# Altium integrated library WE-MAPI SMD Power Inductor.IntLib: 43 symbols
Pins are listed as number, name and electrical type; pins without a type are passive.

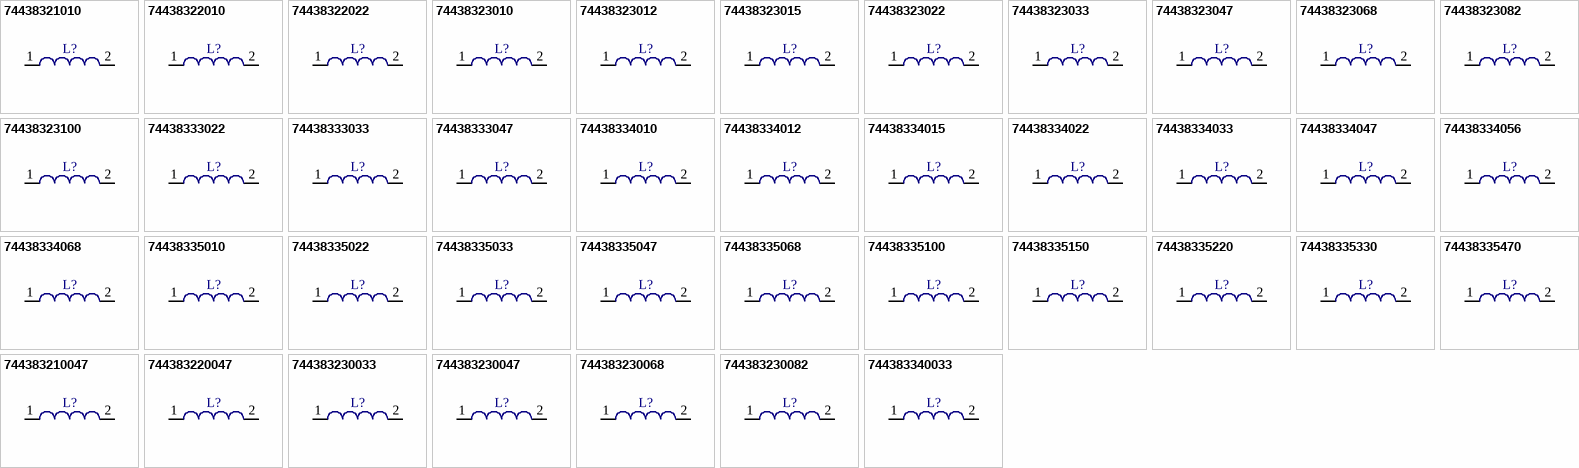
[diagram p0: symbols 74438321010 to 744383340033]

## 74438321010
designator L?
Power Multilayer Inductor WE-MAPI, L=1.0µH; PartNumber: 74438321010; Inductance: 1.0µH; PackageReference: SMD 2506; ComponentLink1Description: Manufacturer URL; ComponentLink1URL: http://www.we-online.com; ComponentLink2Description: Datasheet; ComponentLink2URL: http://katalog.we-online.de/kataloge/eisos/media/pdf/74438321010.pdf
footprint SMD 2506 (Chip Inductor, 2-Leads, Body 2.5x2.0mm, IPC Medium Density)
pins: 1, 2

## 74438322010
designator L?
Power Multilayer Inductor WE-MAPI, L=1.0µH; PartNumber: 74438322010; Inductance: 1.0µH; PackageReference: SMD 2508; ComponentLink1Description: Manufacturer URL; ComponentLink1URL: http://www.we-online.com; ComponentLink2Description: Datasheet; ComponentLink2URL: http://katalog.we-online.de/kataloge/eisos/media/pdf/74438322010.pdf
footprint SMD 2508 (Chip Inductor, 2-Leads, Body 2.5x2.0mm, IPC Medium Density)
pins: 1, 2

## 74438322022
designator L?
Power Multilayer Inductor WE-MAPI, L=2.2µH; PartNumber: 74438322022; Inductance: 2.2µH; PackageReference: SMD 2508; ComponentLink1Description: Manufacturer URL; ComponentLink1URL: http://www.we-online.com; ComponentLink2Description: Datasheet; ComponentLink2URL: http://katalog.we-online.de/kataloge/eisos/media/pdf/74438322022.pdf
footprint SMD 2508 (Chip Inductor, 2-Leads, Body 2.5x2.0mm, IPC Medium Density)
pins: 1, 2

## 74438323010
designator L?
Power Multilayer Inductor WE-MAPI, L=1.0µH; PartNumber: 74438323010; Inductance: 1.0µH; PackageReference: SMD 2510; ComponentLink1Description: Manufacturer URL; ComponentLink1URL: http://www.we-online.com; ComponentLink2Description: Datasheet; ComponentLink2URL: http://katalog.we-online.de/kataloge/eisos/media/pdf/74438323010.pdf
footprint SMD 2510 (Chip Inductor, 2-Leads, Body 2.5x2.0mm, IPC Medium Density)
pins: 1, 2

## 74438323012
designator L?
Power Multilayer Inductor WE-MAPI, L=1.2µH; PartNumber: 74438323012; Inductance: 1.2µH; PackageReference: SMD 2510; ComponentLink1Description: Manufacturer URL; ComponentLink1URL: http://www.we-online.com; ComponentLink2Description: Datasheet; ComponentLink2URL: http://katalog.we-online.de/kataloge/eisos/media/pdf/74438323012.pdf
footprint SMD 2510 (Chip Inductor, 2-Leads, Body 2.5x2.0mm, IPC Medium Density)
pins: 1, 2

## 74438323015
designator L?
Power Multilayer Inductor WE-MAPI, L=1.5µH; PartNumber: 74438323015; Inductance: 1.5µH; PackageReference: SMD 2510; ComponentLink1Description: Manufacturer URL; ComponentLink1URL: http://www.we-online.com; ComponentLink2Description: Datasheet; ComponentLink2URL: http://katalog.we-online.de/kataloge/eisos/media/pdf/74438323015.pdf
footprint SMD 2510 (Chip Inductor, 2-Leads, Body 2.5x2.0mm, IPC Medium Density)
pins: 1, 2

## 74438323022
designator L?
Power Multilayer Inductor WE-MAPI, L=2.2µH; PartNumber: 74438323022; Inductance: 2.2µH; PackageReference: SMD 2510; ComponentLink1Description: Manufacturer URL; ComponentLink1URL: http://www.we-online.com; ComponentLink2Description: Datasheet; ComponentLink2URL: http://katalog.we-online.de/kataloge/eisos/media/pdf/74438323022.pdf
footprint SMD 2510 (Chip Inductor, 2-Leads, Body 2.5x2.0mm, IPC Medium Density)
pins: 1, 2

## 74438323033
designator L?
Power Multilayer Inductor WE-MAPI, L=3.3µH; PartNumber: 74438323033; Inductance: 3.3µH; PackageReference: SMD 2510; ComponentLink1Description: Manufacturer URL; ComponentLink1URL: http://www.we-online.com; ComponentLink2Description: Datasheet; ComponentLink2URL: http://katalog.we-online.de/kataloge/eisos/media/pdf/74438323033.pdf
footprint SMD 2510 (Chip Inductor, 2-Leads, Body 2.5x2.0mm, IPC Medium Density)
pins: 1, 2

## 74438323047
designator L?
Power Multilayer Inductor WE-MAPI, L=4.7µH; PartNumber: 74438323047; Inductance: 4.7µH; PackageReference: SMD 2510; ComponentLink1Description: Manufacturer URL; ComponentLink1URL: http://www.we-online.com; ComponentLink2Description: Datasheet; ComponentLink2URL: http://katalog.we-online.de/kataloge/eisos/media/pdf/74438323047.pdf
footprint SMD 2510 (Chip Inductor, 2-Leads, Body 2.5x2.0mm, IPC Medium Density)
pins: 1, 2

## 74438323068
designator L?
Power Multilayer Inductor WE-MAPI, L=6.8µH; PartNumber: 74438323068; Inductance: 6.8µH; PackageReference: SMD 2510; ComponentLink1Description: Manufacturer URL; ComponentLink1URL: http://www.we-online.com; ComponentLink2Description: Datasheet; ComponentLink2URL: http://katalog.we-online.de/kataloge/eisos/media/pdf/74438323068.pdf
footprint SMD 2510 (Chip Inductor, 2-Leads, Body 2.5x2.0mm, IPC Medium Density)
pins: 1, 2

## 74438323082
designator L?
Power Multilayer Inductor WE-MAPI, L=8.2µH; PartNumber: 74438323082; Inductance: 8.2µH; PackageReference: SMD 2510; ComponentLink1Description: Manufacturer URL; ComponentLink1URL: http://www.we-online.com; ComponentLink2Description: Datasheet; ComponentLink2URL: http://katalog.we-online.de/kataloge/eisos/media/pdf/74438323082.pdf
footprint SMD 2510 (Chip Inductor, 2-Leads, Body 2.5x2.0mm, IPC Medium Density)
pins: 1, 2

## 74438323100
designator L?
Power Multilayer Inductor WE-MAPI, L=10.0µH; PartNumber: 74438323100; Inductance: 10.0µH; PackageReference: SMD 2510; ComponentLink1Description: Manufacturer URL; ComponentLink1URL: http://www.we-online.com; ComponentLink2Description: Datasheet; ComponentLink2URL: http://katalog.we-online.de/kataloge/eisos/media/pdf/74438323100.pdf
footprint SMD 2510 (Chip Inductor, 2-Leads, Body 2.5x2.0mm, IPC Medium Density)
pins: 1, 2

## 74438333022
designator L?
Power Multilayer Inductor WE-MAPI, L=2.2µH; PartNumber: 74438333022; Inductance: 2.2µH; PackageReference: SMD 3010; ComponentLink1Description: Manufacturer URL; ComponentLink1URL: http://www.we-online.com; ComponentLink2Description: Datasheet; ComponentLink2URL: http://katalog.we-online.de/kataloge/eisos/media/pdf/74438333022.pdf
footprint SMD 3010 (Chip Inductor, 2-Leads, Body 3.0x3.0mm, IPC Medium Density)
pins: 1, 2

## 74438333033
designator L?
Power Multilayer Inductor WE-MAPI, L=3.3µH; PartNumber: 74438333033; Inductance: 3.3µH; PackageReference: SMD 3010; ComponentLink1Description: Manufacturer URL; ComponentLink1URL: http://www.we-online.com; ComponentLink2Description: Datasheet; ComponentLink2URL: http://katalog.we-online.de/kataloge/eisos/media/pdf/74438333033.pdf
footprint SMD 3010 (Chip Inductor, 2-Leads, Body 3.0x3.0mm, IPC Medium Density)
pins: 1, 2

## 74438333047
designator L?
Power Multilayer Inductor WE-MAPI, L=4.7µH; PartNumber: 74438333047; Inductance: 4.7µH; PackageReference: SMD 3010; ComponentLink1Description: Manufacturer URL; ComponentLink1URL: http://www.we-online.com; ComponentLink2Description: Datasheet; ComponentLink2URL: http://katalog.we-online.de/kataloge/eisos/media/pdf/74438333047.pdf
footprint SMD 3010 (Chip Inductor, 2-Leads, Body 3.0x3.0mm, IPC Medium Density)
pins: 1, 2

## 74438334010
designator L?
Power Multilayer Inductor WE-MAPI, L=1.0µH; PartNumber: 74438334010; Inductance: 1.0µH; PackageReference: SMD 3012; ComponentLink1Description: Manufacturer URL; ComponentLink1URL: http://www.we-online.com; ComponentLink2Description: Datasheet; ComponentLink2URL: http://katalog.we-online.de/kataloge/eisos/media/pdf/74438334010.pdf
footprint SMD 3012 (Chip Inductor, 2-Leads, Body 3.0x3.0mm, IPC Medium Density)
pins: 1, 2

## 74438334012
designator L?
Power Multilayer Inductor WE-MAPI, L=1.2µH; PartNumber: 74438334012; Inductance: 1.2µH; PackageReference: SMD 3012; ComponentLink1Description: Manufacturer URL; ComponentLink1URL: http://www.we-online.com; ComponentLink2Description: Datasheet; ComponentLink2URL: http://katalog.we-online.de/kataloge/eisos/media/pdf/74438334012.pdf
footprint SMD 3012 (Chip Inductor, 2-Leads, Body 3.0x3.0mm, IPC Medium Density)
pins: 1, 2

## 74438334015
designator L?
Power Multilayer Inductor WE-MAPI, L=1.5µH; PartNumber: 74438334015; Inductance: 1.5µH; PackageReference: SMD 3012; ComponentLink1Description: Manufacturer URL; ComponentLink1URL: http://www.we-online.com; ComponentLink2Description: Datasheet; ComponentLink2URL: http://katalog.we-online.de/kataloge/eisos/media/pdf/74438334015.pdf
footprint SMD 3012 (Chip Inductor, 2-Leads, Body 3.0x3.0mm, IPC Medium Density)
pins: 1, 2

## 74438334022
designator L?
Power Multilayer Inductor WE-MAPI, L=2.2µH; PartNumber: 74438334022; Inductance: 2.2µH; PackageReference: SMD 3012; ComponentLink1Description: Manufacturer URL; ComponentLink1URL: http://www.we-online.com; ComponentLink2Description: Datasheet; ComponentLink2URL: http://katalog.we-online.de/kataloge/eisos/media/pdf/74438334022.pdf
footprint SMD 3012 (Chip Inductor, 2-Leads, Body 3.0x3.0mm, IPC Medium Density)
pins: 1, 2

## 74438334033
designator L?
Power Multilayer Inductor WE-MAPI, L=3.3µH; PartNumber: 74438334033; Inductance: 3.3µH; PackageReference: SMD 3012; ComponentLink1Description: Manufacturer URL; ComponentLink1URL: http://www.we-online.com; ComponentLink2Description: Datasheet; ComponentLink2URL: http://katalog.we-online.de/kataloge/eisos/media/pdf/74438334033.pdf
footprint SMD 3012 (Chip Inductor, 2-Leads, Body 3.0x3.0mm, IPC Medium Density)
pins: 1, 2

## 74438334047
designator L?
Power Multilayer Inductor WE-MAPI, L=4.7µH; PartNumber: 74438334047; Inductance: 4.7µH; PackageReference: SMD 3012; ComponentLink1Description: Manufacturer URL; ComponentLink1URL: http://www.we-online.com; ComponentLink2Description: Datasheet; ComponentLink2URL: http://katalog.we-online.de/kataloge/eisos/media/pdf/74438334047.pdf
footprint SMD 3012 (Chip Inductor, 2-Leads, Body 3.0x3.0mm, IPC Medium Density)
pins: 1, 2

## 74438334056
designator L?
Power Multilayer Inductor WE-MAPI, L=5.6µH; PartNumber: 74438334056; Inductance: 5.6µH; PackageReference: SMD 3012; ComponentLink1Description: Manufacturer URL; ComponentLink1URL: http://www.we-online.com; ComponentLink2Description: Datasheet; ComponentLink2URL: http://katalog.we-online.de/kataloge/eisos/media/pdf/74438334056.pdf
footprint SMD 3012 (Chip Inductor, 2-Leads, Body 3.0x3.0mm, IPC Medium Density)
pins: 1, 2

## 74438334068
designator L?
Power Multilayer Inductor WE-MAPI, L=6.8µH; PartNumber: 74438334068; Inductance: 6.8µH; PackageReference: SMD 3012; ComponentLink1Description: Manufacturer URL; ComponentLink1URL: http://www.we-online.com; ComponentLink2Description: Datasheet; ComponentLink2URL: http://katalog.we-online.de/kataloge/eisos/media/pdf/74438334068.pdf
footprint SMD 3012 (Chip Inductor, 2-Leads, Body 3.0x3.0mm, IPC Medium Density)
pins: 1, 2

## 74438335010
designator L?
Power Multilayer Inductor WE-MAPI, L=1.0µH; PartNumber: 74438335010; Inductance: 1.0µH; PackageReference: SMD 3015; ComponentLink1Description: Manufacturer URL; ComponentLink1URL: http://www.we-online.com; ComponentLink2Description: Datasheet; ComponentLink2URL: http://katalog.we-online.de/kataloge/eisos/media/pdf/74438335010.pdf
footprint SMD 3015 (Chip Inductor, 2-Leads, Body 3.0x3.0mm, IPC Medium Density)
pins: 1, 2

## 74438335022
designator L?
Power Multilayer Inductor WE-MAPI, L=2.2µH; PartNumber: 74438335022; Inductance: 2.2µH; PackageReference: SMD 3015; ComponentLink1Description: Manufacturer URL; ComponentLink1URL: http://www.we-online.com; ComponentLink2Description: Datasheet; ComponentLink2URL: http://katalog.we-online.de/kataloge/eisos/media/pdf/74438335022.pdf
footprint SMD 3015 (Chip Inductor, 2-Leads, Body 3.0x3.0mm, IPC Medium Density)
pins: 1, 2

## 74438335033
designator L?
Power Multilayer Inductor WE-MAPI, L=3.3µH; PartNumber: 74438335033; Inductance: 3.3µH; PackageReference: SMD 3015; ComponentLink1Description: Manufacturer URL; ComponentLink1URL: http://www.we-online.com; ComponentLink2Description: Datasheet; ComponentLink2URL: http://katalog.we-online.de/kataloge/eisos/media/pdf/74438335033.pdf
footprint SMD 3015 (Chip Inductor, 2-Leads, Body 3.0x3.0mm, IPC Medium Density)
pins: 1, 2

## 74438335047
designator L?
Power Multilayer Inductor WE-MAPI, L=4.7µH; PartNumber: 74438335047; Inductance: 4.7µH; PackageReference: SMD 3015; ComponentLink1Description: Manufacturer URL; ComponentLink1URL: http://www.we-online.com; ComponentLink2Description: Datasheet; ComponentLink2URL: http://katalog.we-online.de/kataloge/eisos/media/pdf/74438335047.pdf
footprint SMD 3015 (Chip Inductor, 2-Leads, Body 3.0x3.0mm, IPC Medium Density)
pins: 1, 2

## 74438335068
designator L?
Power Multilayer Inductor WE-MAPI, L=6.8µH; PartNumber: 74438335068; Inductance: 6.8µH; PackageReference: SMD 3015; ComponentLink1Description: Manufacturer URL; ComponentLink1URL: http://www.we-online.com; ComponentLink2Description: Datasheet; ComponentLink2URL: http://katalog.we-online.de/kataloge/eisos/media/pdf/74438335068.pdf
footprint SMD 3015 (Chip Inductor, 2-Leads, Body 3.0x3.0mm, IPC Medium Density)
pins: 1, 2

## 74438335100
designator L?
Power Multilayer Inductor WE-MAPI, L=10.0µH; PartNumber: 74438335100; Inductance: 10.0µH; PackageReference: SMD 3015; ComponentLink1Description: Manufacturer URL; ComponentLink1URL: http://www.we-online.com; ComponentLink2Description: Datasheet; ComponentLink2URL: http://katalog.we-online.de/kataloge/eisos/media/pdf/74438335100.pdf
footprint SMD 3015 (Chip Inductor, 2-Leads, Body 3.0x3.0mm, IPC Medium Density)
pins: 1, 2

## 74438335150
designator L?
Power Multilayer Inductor WE-MAPI, L=15.0µH; PartNumber: 74438335150; Inductance: 15.0µH; PackageReference: SMD 3015; ComponentLink1Description: Manufacturer URL; ComponentLink1URL: http://www.we-online.com; ComponentLink2Description: Datasheet; ComponentLink2URL: http://katalog.we-online.de/kataloge/eisos/media/pdf/74438335150.pdf
footprint SMD 3015 (Chip Inductor, 2-Leads, Body 3.0x3.0mm, IPC Medium Density)
pins: 1, 2

## 74438335220
designator L?
Power Multilayer Inductor WE-MAPI, L=22.0µH; PartNumber: 74438335220; Inductance: 22.0µH; PackageReference: SMD 3015; ComponentLink1Description: Manufacturer URL; ComponentLink1URL: http://www.we-online.com; ComponentLink2Description: Datasheet; ComponentLink2URL: http://katalog.we-online.de/kataloge/eisos/media/pdf/74438335220.pdf
footprint SMD 3015 (Chip Inductor, 2-Leads, Body 3.0x3.0mm, IPC Medium Density)
pins: 1, 2

## 74438335330
designator L?
Power Multilayer Inductor WE-MAPI, L=33.0µH; PartNumber: 74438335330; Inductance: 33.0µH; PackageReference: SMD 3015; ComponentLink1Description: Manufacturer URL; ComponentLink1URL: http://www.we-online.com; ComponentLink2Description: Datasheet; ComponentLink2URL: http://katalog.we-online.de/kataloge/eisos/media/pdf/74438335330.pdf
footprint SMD 3015 (Chip Inductor, 2-Leads, Body 3.0x3.0mm, IPC Medium Density)
pins: 1, 2

## 74438335470
designator L?
Power Multilayer Inductor WE-MAPI, L=47.0µH; PartNumber: 74438335470; Inductance: 47.0µH; PackageReference: SMD 3015; ComponentLink1Description: Manufacturer URL; ComponentLink1URL: http://www.we-online.com; ComponentLink2Description: Datasheet; ComponentLink2URL: http://katalog.we-online.de/kataloge/eisos/media/pdf/74438335470.pdf
footprint SMD 3015 (Chip Inductor, 2-Leads, Body 3.0x3.0mm, IPC Medium Density)
pins: 1, 2

## 744383210047
designator L?
Power Multilayer Inductor WE-MAPI, L=0.47µH; PartNumber: 744383210047; Inductance: 0.47µH; PackageReference: SMD 2506; ComponentLink1Description: Manufacturer URL; ComponentLink1URL: http://www.we-online.com; ComponentLink2Description: Datasheet; ComponentLink2URL: http://katalog.we-online.de/kataloge/eisos/media/pdf/744383210047.pdf
footprint SMD 2506 (Chip Inductor, 2-Leads, Body 2.5x2.0mm, IPC Medium Density)
pins: 1, 2

## 744383220047
designator L?
Power Multilayer Inductor WE-MAPI, L=0.47µH; PartNumber: 744383220047; Inductance: 0.47µH; PackageReference: SMD 2508; ComponentLink1Description: Manufacturer URL; ComponentLink1URL: http://www.we-online.com; ComponentLink2Description: Datasheet; ComponentLink2URL: http://katalog.we-online.de/kataloge/eisos/media/pdf/744383220047.pdf
footprint SMD 2508 (Chip Inductor, 2-Leads, Body 2.5x2.0mm, IPC Medium Density)
pins: 1, 2

## 744383230033
designator L?
Power Multilayer Inductor WE-MAPI, L=0.33µH; PartNumber: 744383230033; Inductance: 0.33µH; PackageReference: SMD 2510; ComponentLink1Description: Manufacturer URL; ComponentLink1URL: http://www.we-online.com; ComponentLink2Description: Datasheet; ComponentLink2URL: http://katalog.we-online.de/kataloge/eisos/media/pdf/744383230033.pdf
footprint SMD 2510 (Chip Inductor, 2-Leads, Body 2.5x2.0mm, IPC Medium Density)
pins: 1, 2

## 744383230047
designator L?
Power Multilayer Inductor WE-MAPI, L=0.47µH; PartNumber: 744383230047; Inductance: 0.47µH; PackageReference: SMD 2510; ComponentLink1Description: Manufacturer URL; ComponentLink1URL: http://www.we-online.com; ComponentLink2Description: Datasheet; ComponentLink2URL: http://katalog.we-online.de/kataloge/eisos/media/pdf/744383230047.pdf
footprint SMD 2510 (Chip Inductor, 2-Leads, Body 2.5x2.0mm, IPC Medium Density)
pins: 1, 2

## 744383230068
designator L?
Power Multilayer Inductor WE-MAPI, L=0.68µH; PartNumber: 744383230068; Inductance: 0.68µH; PackageReference: SMD 2510; ComponentLink1Description: Manufacturer URL; ComponentLink1URL: http://www.we-online.com; ComponentLink2Description: Datasheet; ComponentLink2URL: http://katalog.we-online.de/kataloge/eisos/media/pdf/744383230068.pdf
footprint SMD 2510 (Chip Inductor, 2-Leads, Body 2.5x2.0mm, IPC Medium Density)
pins: 1, 2

## 744383230082
designator L?
Power Multilayer Inductor WE-MAPI, L=0.82µH; PartNumber: 744383230082; Inductance: 0.82µH; PackageReference: SMD 2510; ComponentLink1Description: Manufacturer URL; ComponentLink1URL: http://www.we-online.com; ComponentLink2Description: Datasheet; ComponentLink2URL: http://katalog.we-online.de/kataloge/eisos/media/pdf/744383230082.pdf
footprint SMD 2510 (Chip Inductor, 2-Leads, Body 2.5x2.0mm, IPC Medium Density)
pins: 1, 2

## 744383340033
designator L?
Power Multilayer Inductor WE-MAPI, L=0.33µH; PartNumber: 744383340033; Inductance: 0.33µH; PackageReference: SMD 3012; ComponentLink1Description: Manufacturer URL; ComponentLink1URL: http://www.we-online.com; ComponentLink2Description: Datasheet; ComponentLink2URL: http://katalog.we-online.de/kataloge/eisos/media/pdf/744383340033.pdf
footprint SMD 3012 (Chip Inductor, 2-Leads, Body 3.0x3.0mm, IPC Medium Density)
pins: 1, 2

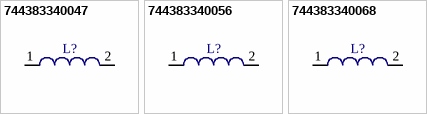
[diagram p1: symbols 744383340047 to 744383340068]

## 744383340047
designator L?
Power Multilayer Inductor WE-MAPI, L=0.47µH; PartNumber: 744383340047; Inductance: 0.47µH; PackageReference: SMD 3012; ComponentLink1Description: Manufacturer URL; ComponentLink1URL: http://www.we-online.com; ComponentLink2Description: Datasheet; ComponentLink2URL: http://katalog.we-online.de/kataloge/eisos/media/pdf/744383340047.pdf
footprint SMD 3012 (Chip Inductor, 2-Leads, Body 3.0x3.0mm, IPC Medium Density)
pins: 1, 2

## 744383340056
designator L?
Power Multilayer Inductor WE-MAPI, L=0.56µH; PartNumber: 744383340056; Inductance: 0.56µH; PackageReference: SMD 3012; ComponentLink1Description: Manufacturer URL; ComponentLink1URL: http://www.we-online.com; ComponentLink2Description: Datasheet; ComponentLink2URL: http://katalog.we-online.de/kataloge/eisos/media/pdf/744383340056.pdf
footprint SMD 3012 (Chip Inductor, 2-Leads, Body 3.0x3.0mm, IPC Medium Density)
pins: 1, 2

## 744383340068
designator L?
Power Multilayer Inductor WE-MAPI, L=0.68µH; PartNumber: 744383340068; Inductance: 0.68µH; PackageReference: SMD 3012; ComponentLink1Description: Manufacturer URL; ComponentLink1URL: http://www.we-online.com; ComponentLink2Description: Datasheet; ComponentLink2URL: http://katalog.we-online.de/kataloge/eisos/media/pdf/744383340068.pdf
footprint SMD 3012 (Chip Inductor, 2-Leads, Body 3.0x3.0mm, IPC Medium Density)
pins: 1, 2